# Altium footprint library PDB_Footprints_v1.6.PcbLib: 17 footprints (part 1 of 2)
Each footprint in its own frame and in the unit in brackets; x right, y up, seen from the top. Pads: shape width x height; smd on the part's side, far side on the other; paste and mask are expansions set on the pad; w line width, h text height; cw(c..) or ccw(c..) is an arc to the next point about the centre after c.
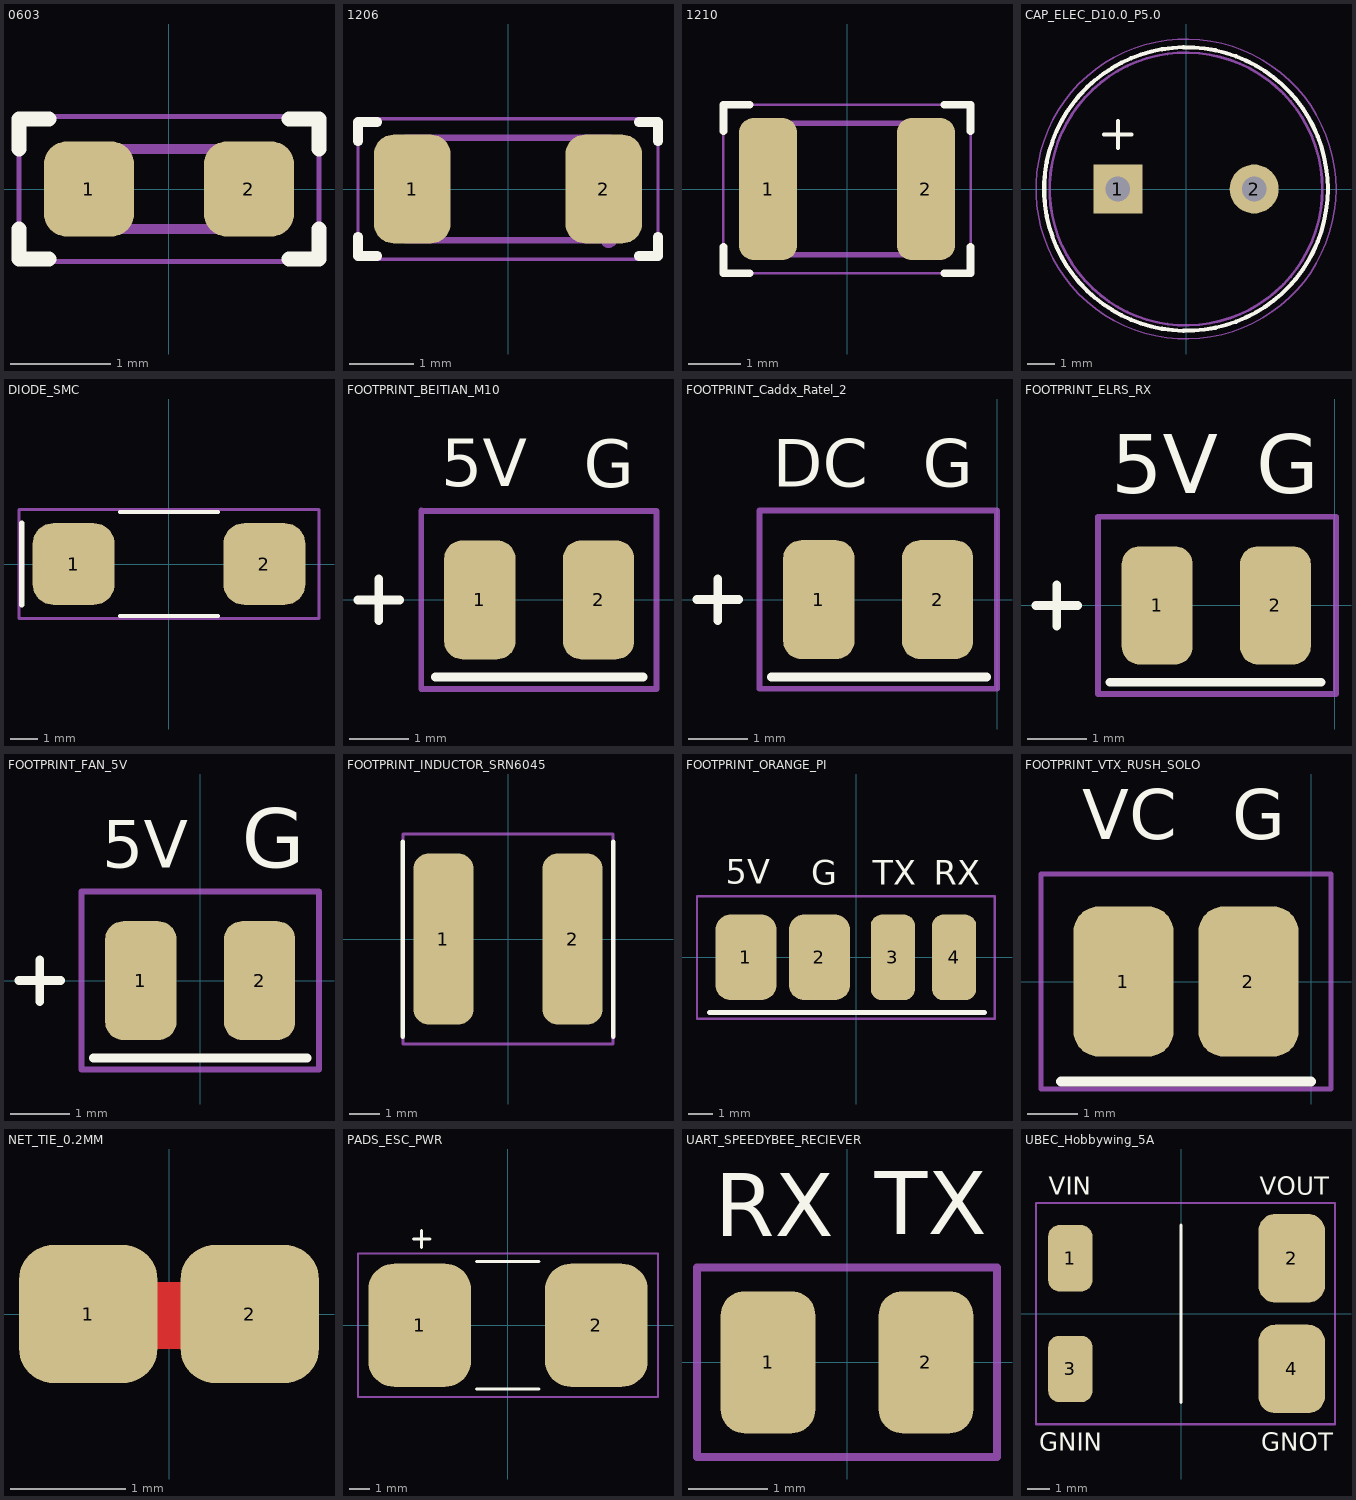
[diagram p0: the footprints below, top view; thin cyan lines are the x and y axes]

## 0603 [mm] "CAPC1608X90N"
pads (2):
  rrect50% 0.9x0.95 smd: 1(-0.8,0) 2(0.8,0)
Top Overlay:
  lines w0.15: -1.5,-0.4 -1.5,-0.7 -1.2,-0.7 ; -1.5,0.4 -1.5,0.7 -1.2,0.7 ; 1.2,-0.7 1.5,-0.7 1.5,-0.4 ; 1.2,0.7 1.5,0.7 1.5,0.4
  text ".Designator" at -7.768,1.753 h0.7
Top Component Outline:
  lines w0.1: 0.799,-0.407 0.799,0.393 ; 0.8,-0.4 -0.8,-0.4 -0.8,0.4 0.8,0.4
Top Courtyard:
  lines w0.05: -1.5,-0.725 -1.5,0.725 1.5,0.725 1.5,-0.725 -1.5,-0.725

## 1206 [mm] "CAPC3216X180N"
pads (2):
  rrect50% 1.2x1.7 smd: 1(-1.5,0) 2(1.5,0)
Top Overlay:
  lines w0.15: -2.35,-0.75 -2.35,-1.05 -2.05,-1.05 ; -2.35,0.75 -2.35,1.05 -2.05,1.05 ; 2.05,-1.05 2.35,-1.05 2.35,-0.75 ; 2.05,1.05 2.35,1.05 2.35,0.75
  text ".Designator" at -7.768,2.134 h1
Top Component Outline:
  lines w0.1: -1.6,-0.8 -1.6,0.8 1.6,0.8 1.6,-0.8 -1.6,-0.8
  lines w0.254: 1.575,-0.8 1.6,-0.775
Top Courtyard:
  lines w0.05: -2.35,-1.1 2.35,-1.1 2.35,1.1 -2.35,1.1 -2.35,-1.1

## 1210 [mm] "CAPC3225X280N"
pads (2):
  rrect50% 1.1x2.7 smd: 1(-1.5,0) 2(1.5,0)
Top Overlay:
  lines w0.15: -2.35,-1.1 -2.35,-1.6 -1.85,-1.6 ; -2.35,1.1 -2.35,1.6 -1.85,1.6 ; 1.85,-1.6 2.35,-1.6 2.35,-1.1 ; 1.85,1.6 2.35,1.6 2.35,1.1
Top Component Outline:
  lines w0.1: -1.6,-1.25 1.6,-1.25 1.6,1.25 -1.6,1.25 -1.6,-1.25
Top Courtyard:
  lines w0.05: -2.35,-1.6 -2.35,1.6 2.35,1.6 2.35,-1.6 -2.35,-1.6

## CAP_ELEC_D10.0_P5.0 [mm] "CAPRB500W60D1000H1600"
pads (2):
  rect 1.8x1.8 hole 0.9: 1(-2.5,0)
  round 1.8 hole 0.9: 2(2.5,0)
Top Overlay:
  circle w0.15: c0,0 r5.2
  lines w0.15: -3,2 -2,2 ; -2.5,1.5 -2.5,2.5
  text ".Designator" at -7.768,6.555 h1.2
Top Component Outline:
  circle w0.1: c0,0 r5
Top Courtyard:
  circle w0.05: c0,0 r5.5

## DIODE_SMC [mm]
pads (2):
  rrect50% 3x3 smd: 1(-3.5,0) 2(3.5,0)
Top Overlay:
  lines w0.15: -1.8,-1.9 1.8,-1.9 ; -1.8,1.9 1.8,1.9
  lines w0.2: -5.4,-1.5 -5.4,1.5
  text ".Designator" at -7.768,3.059 h1
Top Courtyard:
  lines w0.1: -5.5,-2 5.5,-2 5.5,2 -5.5,2 -5.5,-2

## FOOTPRINT_BEITIAN_M10 [mm]
pads (2):
  rrect50% 1.2x2 smd: 1(-5,0) 2(-3,0)
Top Overlay:
  lines w0.15: -7.05,0 -6.35,0 ; -6.7,-0.35 -6.7,0.35 ; -5.75,-1.3 -2.25,-1.3
  text "G" at -3.25,1.9 h0.8
  text "5V" at -5.65,1.91 h0.8
  text ".Designator" at -7.768,3.684 h1
Top Courtyard:
  lines w0.1: -5.986,-1.498 -5.986,1.502 ; -5.975,-1.5 -2.025,-1.5 -2.025,1.5 -5.975,1.5

## FOOTPRINT_Caddx_Ratel_2 [mm]
pads (2):
  rrect50% 1.2x2 smd: 1(-3,0) 2(-1,0)
Top Overlay:
  lines w0.15: -5.05,0 -4.35,0 ; -4.7,-0.35 -4.7,0.35 ; -3.8,-1.3 -0.175,-1.3
  text ".Designator" at -8.743,3.684 h1
  text "DC" at -3.775,1.9 h0.8
  text "G" at -1.25,1.9 h0.8
Top Courtyard:
  lines w0.1: -4,-1.5 0,-1.5 0,1.5 -4,1.5 -4,-1.5

## FOOTPRINT_ELRS_RX [mm]
pads (2):
  rrect50% 1.2x2 smd: 1(-3,0) 2(-1,0)
Top Overlay:
  lines w0.15: -5.05,0 -4.35,0 ; -4.7,-0.35 -4.7,0.35 ; -3.8,-1.3 -0.225,-1.3
  text "G" at -1.325,1.9 h1
  text "5V" at -3.775,1.9 h1
  text ".Designator" at -7.768,3.684 h1
Top Courtyard:
  lines w0.1: -4,-1.5 0.025,-1.5 0.025,1.5 -4,1.5 -4,-1.5

## FOOTPRINT_FAN_5V [mm]
pads (2):
  rrect50% 1.2x2 smd: 1(-1,0) 2(1,0)
Top Overlay:
  lines w0.15: -3.05,0 -2.35,0 ; -2.7,-0.35 -2.7,0.35 ; -1.8,-1.3 1.8,-1.3
  text "5V" at -1.65,1.9 h0.8
  text "G" at 0.7,1.9 h1
  text ".Designator" at -7.768,3.684 h1
Top Courtyard:
  lines w0.1: -2,-1.5 -2,1.5 ; -1.975,-1.5 1.975,-1.5 ; -1.975,1.5 1.975,1.5 ; 2,-1.5 2,1.5

## FOOTPRINT_INDUCTOR_SRN6045 [mm]
pads (2):
  rrect50% 2x5.7 smd: 1(-2.15,0) 2(2.15,0)
Top Overlay:
  lines w0.15: -3.5,-3.25 -3.5,3.25 ; 3.5,-3.25 3.5,3.25
  text ".Designator" at -7.768,4.584 h1
Top Courtyard:
  lines w0.1: -3.5,-3.5 3.5,-3.5 3.5,3.5 -3.5,3.5 -3.5,-3.5

## FOOTPRINT_ORANGE_PI [mm]
pads (4):
  rrect50% 2.5x3.5 smd: 1(-4.5,0) 2(-1.5,0)
  rrect50% 1.8x3.5 smd: 3(1.5,0) 4(4,0)
Top Overlay:
  lines w0.2: -6,-2.25 5.25,-2.25
  text "5V" at -5.325,3 h1
  text "RX" at 3.175,2.975 h1
  text "TX" at 0.675,2.975 h1
  text "G" at -1.825,2.975 h1
  text ".Designator" at -7.768,4.759 h1
Top Courtyard:
  lines w0.1: -6.5,-2.5 5.65,-2.5 5.65,2.5 -6.5,2.5 -6.5,-2.5

## FOOTPRINT_VTX_RUSH_SOLO [mm]
pads (2):
  rrect50% 2x3 smd: 1(-3.75,0) 2(-1.25,0)
Top Overlay:
  lines w0.2: -5,-2 0,-2
  text "G" at -1.575,2.85 h1
  text "VC" at -4.575,2.85 h1
  text ".Designator" at -7.768,4.634 h1
Top Courtyard:
  lines w0.1: -5.4,-2.15 0.4,-2.15 0.4,2.15 -5.4,2.15 -5.4,-2.15

## NET_TIE_0.2MM [mm]
pads (2):
  rrect50% 1.2x1.2 smd mask+0.102: 1(-0.7,0) 2(0.7,0)
Top Layer:
  region: -0.125,0.275 0.125,0.275 0.125,-0.3 -0.125,-0.3

## PADS_ESC_PWR [mm]
pads (2):
  rrect50% 5x6 smd: 1(-4.3,0) 2(4.3,0)
Top Overlay:
  lines w0.15: -4.6,4.2 -3.8,4.2 ; -4.2,3.8 -4.2,4.6 ; -1.525,-3.1 1.5,-3.1 ; -1.525,3.1 1.5,3.1
  text ".Designator" at -7.768,4.684 h1
Top Courtyard:
  lines w0.1: -7.3,-3.5 7.3,-3.5 7.3,3.5 -7.3,3.5 -7.3,-3.5

## UART_SPEEDYBEE_RECIEVER [mm]
pads (2):
  rrect50% 1.2x1.8 smd: 1(-1,0) 2(1,0)
Top Overlay:
  text "RX" at -1.675,1.6 h0.8
  text "TX" at 0.35,1.625 h0.8
Top Courtyard:
  lines w0.1: -1.9,-1.2 1.9,-1.2 1.9,1.2 -1.9,1.2 -1.9,-1.2

## UBEC_Hobbywing_5A [mm]
pads (4):
  rrect50% 2x3 smd: 1(-5,2.5) 3(-5,-2.5)
  rrect50% 3x4 smd: 2(5,2.5) 4(5,-2.5)
Top Overlay:
  lines w0.15: 0,-4 0,4
  text "GNOT" at 3.62,-6.205 h0.8
  text "GNIN" at -6.405,-6.205 h0.8
  text "VOUT" at 3.545,5.37 h0.8
  text "VIN" at -5.98,5.37 h0.8
  text ".Designator" at -7.768,7.184 h1
Top Courtyard:
  lines w0.1: -6.55,-5 6.95,-5 6.95,5 -6.55,5 -6.55,-5